# Altium footprint library DIOT-mini-backplane.PcbLib: 21 footprints (part 1 of 2)
Each footprint in its own frame and in the unit in brackets; x right, y up, seen from the top. Pads: shape width x height; smd on the part's side, far side on the other; paste and mask are expansions set on the pad; w line width, h text height; cw(c..) or ccw(c..) is an arc to the next point about the centre after c.
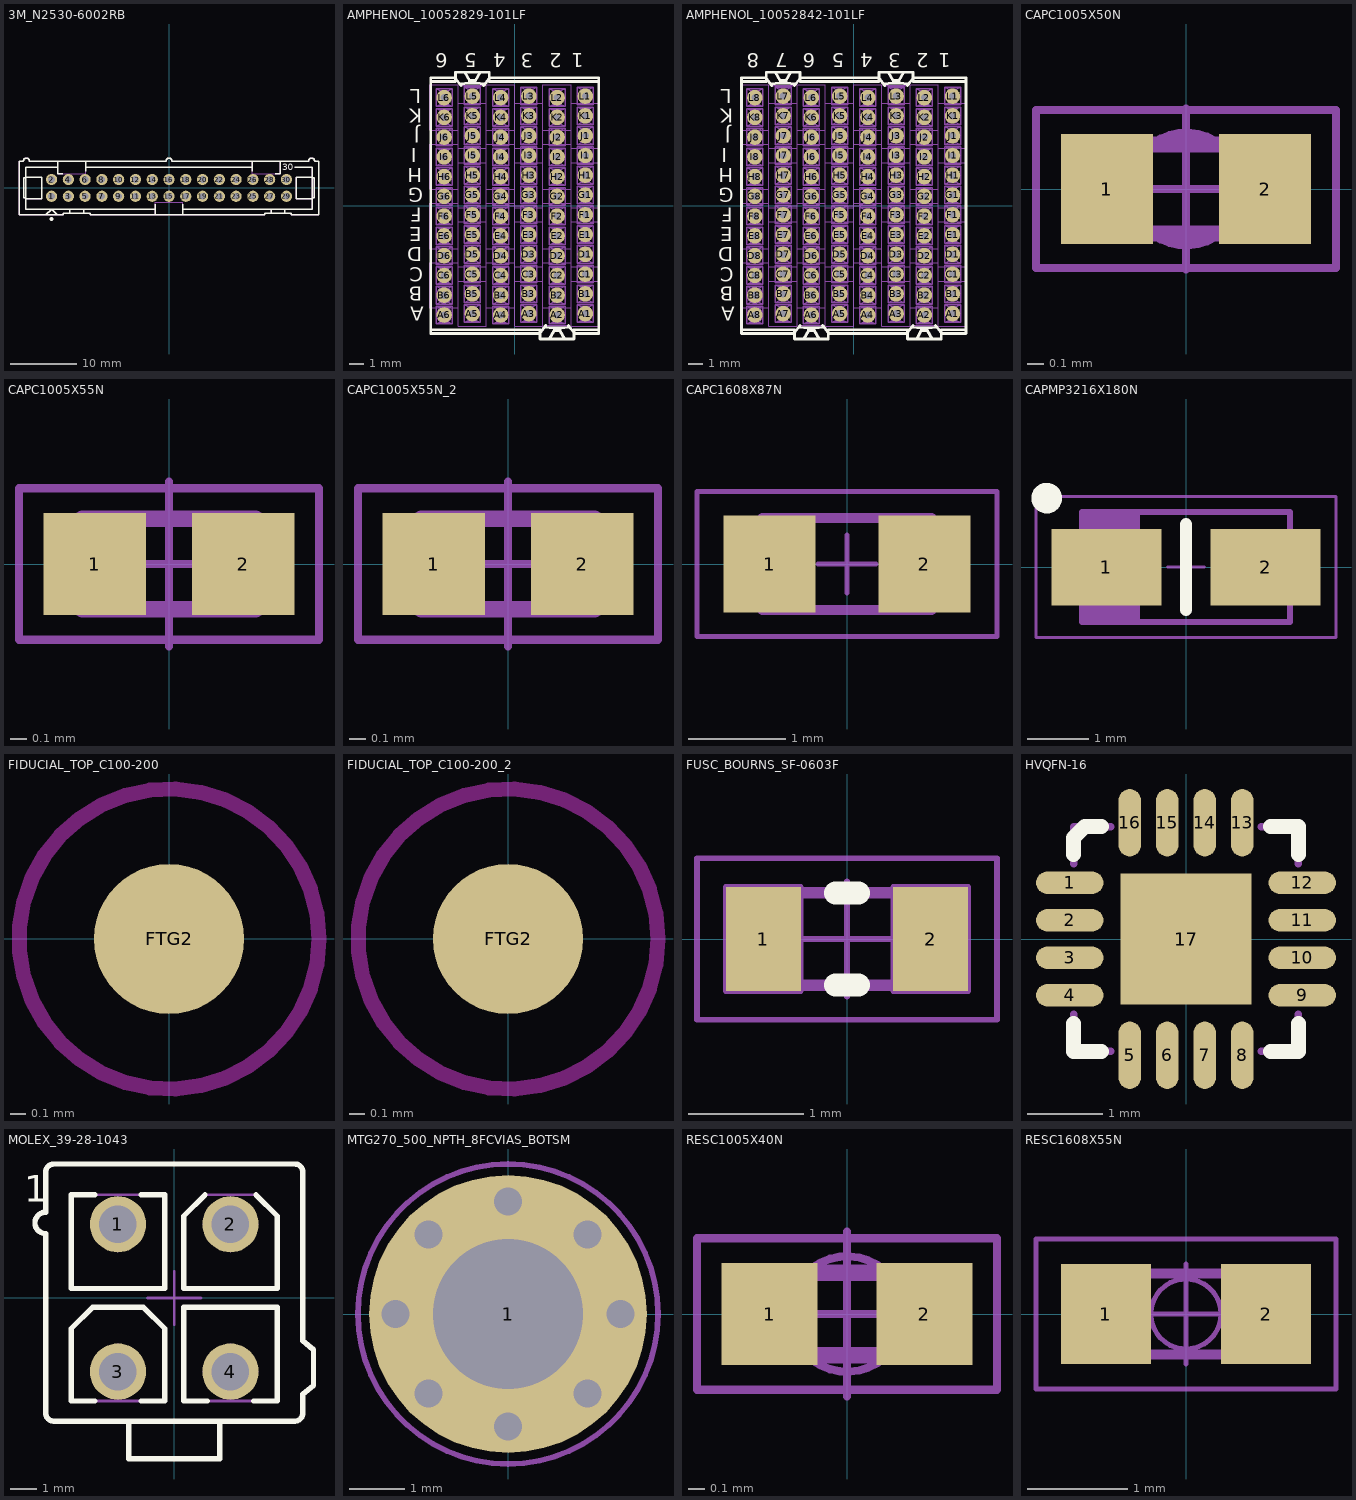
[diagram p0: the footprints below, top view; thin cyan lines are the x and y axes]

## 3M_N2530-6002RB [mm]
pads (30):
  round 1.7 hole 1: 1(-17.78,-1.27) 2(-17.78,1.27) 3(-15.24,-1.27) 4(-15.24,1.27) 5(-12.7,-1.27) 6(-12.7,1.27) 7(-10.16,-1.27) 8(-10.16,1.27) 9(-7.62,-1.27) 10(-7.62,1.27) 11(-5.08,-1.27) 12(-5.08,1.27) 13(-2.54,-1.27) 14(-2.54,1.27) 15(0,-1.27) 16(0,1.27) 17(2.54,-1.27) 18(2.54,1.27) 19(5.08,-1.27) 20(5.08,1.27) 21(7.62,-1.27) 22(7.62,1.27) 23(10.16,-1.27) 24(10.16,1.27) 25(12.7,-1.27) 26(12.7,1.27) 27(15.24,-1.27) 28(15.24,1.27) 29(17.78,-1.27) 30(17.78,1.27)
Top Overlay:
  circle w0.3: c-17.78,-4.699 r0.15
  lines w0.2: -21.692,-1.603 -19.279,-1.603 -19.279,1.603 -21.692,1.603 ; -21.692,-1.524 -21.996,-1.524 -21.996,1.524 -21.692,1.524 ; -18.644,-4.064 -17.78,-3.2 -16.916,-4.064 ; -16.828,3.15 -21.692,3.15 -21.692,-3.2 -2.096,-3.2 ; -16.828,4.064 -16.828,2.159 -16.119,2.159 ; -15.011,-3.835 -15.011,-3.2 ; -12.929,-3.835 -12.929,-3.2 ; -12.637,2.518 -12.637,4.064 ; -12.637,3.15 12.637,3.15 ; -2.096,-4.064 -2.096,-2.438 ; 2.095,-4.064 2.095,-2.438 ; 2.095,-3.2 21.692,-3.2 21.692,3.15 19.05,3.15 ; 12.637,2.518 12.637,4.064 ; 15.469,-3.835 15.469,-3.2 ; 16.119,2.159 16.828,2.159 16.828,4.064 ; 17.551,-3.835 17.551,-3.2 ; 21.692,-1.603 19.279,-1.603 19.279,1.603 21.692,1.603 ; 21.692,-1.524 21.996,-1.524 21.996,1.524 21.692,1.524 ; -22.708,-4.064 -22.708,4.064 -22.047,4.064 cw(c-21.59,4.064) -21.133,4.064 -0.457,4.064 cw(c0,4.064) 0.457,4.064 21.133,4.064 cw(c21.59,4.064) 22.047,4.064 22.708,4.064 22.708,-4.064 18.542,-4.064 18.542,-3.835 14.478,-3.835 14.478,-4.064 -11.938,-4.064 -11.938,-3.835 -16.002,-3.835 -16.002,-4.064 -22.708,-4.064
  text "30" at 17.145,2.667 h1.02
Mechanical 14:
  lines w0.1: -21.692,-1.603 -19.279,-1.603 -19.279,1.603 -21.692,1.603 ; -21.692,-1.524 -21.996,-1.524 -21.996,1.524 -21.692,1.524 ; -18.644,-4.064 -17.78,-3.2 -16.916,-4.064 ; -16.828,3.15 -21.692,3.15 -21.692,-3.2 -2.096,-3.2 ; -16.828,4.064 -16.828,2.159 -12.637,2.159 -12.637,4.064 ; -15.011,-3.835 -15.011,-3.2 ; -12.929,-3.835 -12.929,-3.2 ; -12.637,3.15 12.637,3.15 ; -2.096,-4.064 -2.096,-2.159 2.095,-2.159 2.095,-4.064 ; 2.095,-3.2 21.692,-3.2 21.692,3.15 19.05,3.15 ; 12.637,4.064 12.637,2.159 16.828,2.159 16.828,4.064 ; 15.469,-3.835 15.469,-3.2 ; 17.551,-3.835 17.551,-3.2 ; 21.692,-1.603 19.279,-1.603 19.279,1.603 21.692,1.603 ; 21.692,-1.524 21.996,-1.524 21.996,1.524 21.692,1.524 ; -22.708,-4.064 -22.708,4.064 -22.047,4.064 cw(c-21.59,4.064) -21.133,4.064 -0.457,4.064 cw(c0,4.064) 0.457,4.064 21.133,4.064 cw(c21.59,4.064) 22.047,4.064 22.708,4.064 22.708,-4.064 18.542,-4.064 18.542,-3.835 14.478,-3.835 14.478,-4.064 -11.938,-4.064 -11.938,-3.835 -16.002,-3.835 -16.002,-4.064 -22.708,-4.064
  text "30" at 17.145,2.667 h1.02
3D body "3M_N2530-6002RB.stp": height 9.91, standoff -2.84, extent -22.707,-4.115 22.708,4.518

## AMPHENOL_10052829-101LF [mm]
pads (72):
  round 1.1 hole 0.5: A1(5,-7.65) A2(3,-7.75) A3(1,-7.65) A4(-1,-7.75) A5(-3,-7.65) A6(-5,-7.75) B1(5,-6.25) B2(3,-6.35) B3(1,-6.25) B4(-1,-6.35) B5(-3,-6.25) B6(-5,-6.35) C1(5,-4.85) C2(3,-4.95) C3(1,-4.85) C4(-1,-4.95) C5(-3,-4.85) C6(-5,-4.95) D1(5,-3.45) D2(3,-3.55) D3(1,-3.45) D4(-1,-3.55) D5(-3,-3.45) D6(-5,-3.55) E1(5,-2.05) E2(3,-2.15) E3(1,-2.05) E4(-1,-2.15) E5(-3,-2.05) E6(-5,-2.15) F1(5,-0.65) F2(3,-0.75) F3(1,-0.65) F4(-1,-0.75) F5(-3,-0.65) F6(-5,-0.75) G1(5,0.75) G2(3,0.65) G3(1,0.75) G4(-1,0.65) G5(-3,0.75) G6(-5,0.65) H1(5,2.15) H2(3,2.05) H3(1,2.15) H4(-1,2.05) H5(-3,2.15) H6(-5,2.05) I1(5,3.55) I2(3,3.45) I3(1,3.55) I4(-1,3.45) I5(-3,3.55) I6(-5,3.45) J1(5,4.95) J2(3,4.85) J3(1,4.95) J4(-1,4.85) J5(-3,4.95) J6(-5,4.85) K1(5,6.35) K2(3,6.25) K3(1,6.35) K4(-1,6.25) K5(-3,6.35) K6(-5,6.25) L1(5,7.75) L2(3,7.65) L3(1,7.75) L4(-1,7.65) L5(-3,7.75) L6(-5,7.65)
Top Overlay:
  lines w0.2: -5.95,-8.8 1.8,-8.8 1.8,-9.45 4.2,-9.45 4.2,-8.8 5.95,-8.8 ; -5.95,8.8 -4.2,8.8 -4.2,9.45 -1.8,9.45 -1.8,8.8 5.95,8.8 ; -4.2,9 -3.8,8.5 ; -4.2,9.05 -5.95,9.05 -5.95,-9.05 1.8,-9.05 ; -3.896,8.619 -3.2,8.68 ; -3.546,9.45 -3.2,8.85 ; -2.454,9.45 -2.8,8.85 ; -2.2,8.5 -1.8,9 ; -2.104,8.619 -2.8,8.68 ; -1.8,9.05 5.95,9.05 5.95,-9.05 4.2,-9.05 ; 1.8,-9 2.2,-8.5 ; 2.105,-8.619 2.8,-8.68 ; 2.454,-9.45 2.8,-8.85 ; 3.546,-9.45 3.2,-8.85 ; 3.8,-8.5 4.2,-9 ; 3.895,-8.619 3.2,-8.68 ; -3.2,8.68 -3.2,8.85 ; -3.2,8.68 -2.8,8.68 ; -3.2,8.85 -2.8,8.85 ; -2.8,8.68 -2.8,8.85 ; 2.8,-8.85 2.8,-8.68 ; 2.8,-8.85 3.2,-8.85 ; 2.8,-8.68 3.2,-8.68 ; 3.2,-8.85 3.2,-8.68
  text "L" at -6.629,8.25 h1
  text "6" at -4.731,10.8 h1
  text "K" at -6.533,6.85 h1
  text "J" at -6.724,5.45 h1
  text "5" at -2.683,10.8 h1
  text "4" at -0.636,10.8 h1
  text "I" at -6.95,4.05 h1
  text "H" at -6.533,2.65 h1
  text "G" at -6.486,1.25 h1
  text "3" at 1.317,10.8 h1
  text "2" at 3.317,10.8 h1
  text "1" at 4.888,10.8 h1
  text "F" at -6.581,-0.15 h1
  text "E" at -6.581,-1.55 h1
  text "D" at -6.533,-2.95 h1
  text "C" at -6.486,-4.35 h1
  text "B" at -6.533,-5.75 h1
  text "A" at -6.438,-7.15 h1
Mechanical 8:
  drawing of 247 lines, arcs and shapes, not listed
Mechanical 14:
  drawing of 902 lines, arcs and shapes, not listed
  text "L" at -7.2,7.25 h1
  text "6" at -5.35,9.8 h1
  text "K" at -7.2,5.85 h1
  text "J" at -7.2,4.45 h1
  text "5" at -3.35,9.8 h1
  text "4" at -1.35,9.8 h1
  text "I" at -6.95,3.05 h1
  text "H" at -7.2,1.65 h1
  text "G" at -7.2,0.25 h1
  text "3" at 0.65,9.8 h1
  text "2" at 2.65,9.8 h1
  text "1" at 4.65,9.8 h1
  text "F" at -7.2,-1.15 h1
  text "E" at -7.2,-2.55 h1
  text "D" at -7.2,-3.95 h1
  text "C" at -7.2,-5.35 h1
  text "B" at -7.2,-6.75 h1
  text "A" at -7.2,-8.15 h1
Drill Drawing:
  lines w0.1: -6,-8.75 -6,8.75 6,8.75 6,-8.75 -6,-8.75
  text "PRESS-FIT TECHNOLOGY" at 7.5,-8.4 h1
  text "Diam. 0.5mm +/-0.05" at 9,-8.4 h1
3D body "AMPHENOL_10052829-101LF.stp": height 10.7, standoff -1.6, extent -5.95,-9.45 5.95,9.45

## AMPHENOL_10052842-101LF [mm]
pads (96):
  round 1.1 hole 0.5: A1(7,-7.65) A2(5,-7.75) A3(3,-7.65) A4(1,-7.75) A5(-1,-7.65) A6(-3,-7.75) A7(-5,-7.65) A8(-7,-7.75) B1(7,-6.25) B2(5,-6.35) B3(3,-6.25) B4(1,-6.35) B5(-1,-6.25) B6(-3,-6.35) B7(-5,-6.25) B8(-7,-6.35) C1(7,-4.85) C2(5,-4.95) C3(3,-4.85) C4(1,-4.95) C5(-1,-4.85) C6(-3,-4.95) C7(-5,-4.85) C8(-7,-4.95) D1(7,-3.45) D2(5,-3.55) D3(3,-3.45) D4(1,-3.55) D5(-1,-3.45) D6(-3,-3.55) D7(-5,-3.45) D8(-7,-3.55) E1(7,-2.05) E2(5,-2.15) E3(3,-2.05) E4(1,-2.15) E5(-1,-2.05) E6(-3,-2.15) E7(-5,-2.05) E8(-7,-2.15) F1(7,-0.65) F2(5,-0.75) F3(3,-0.65) F4(1,-0.75) F5(-1,-0.65) F6(-3,-0.75) F7(-5,-0.65) F8(-7,-0.75) G1(7,0.75) G2(5,0.65) G3(3,0.75) G4(1,0.65) G5(-1,0.75) G6(-3,0.65) G7(-5,0.75) G8(-7,0.65) H1(7,2.15) H2(5,2.05) H3(3,2.15) H4(1,2.05) H5(-1,2.15) H6(-3,2.05) H7(-5,2.15) H8(-7,2.05) I1(7,3.55) I2(5,3.45) I3(3,3.55) I4(1,3.45) I5(-1,3.55) I6(-3,3.45) I7(-5,3.55) I8(-7,3.45) J1(7,4.95) J2(5,4.85) J3(3,4.95) J4(1,4.85) J5(-1,4.95) J6(-3,4.85) J7(-5,4.95) J8(-7,4.85) K1(7,6.35) K2(5,6.25) K3(3,6.35) K4(1,6.25) K5(-1,6.35) K6(-3,6.25) K7(-5,6.35) K8(-7,6.25) L1(7,7.75) L2(5,7.65) L3(3,7.75) L4(1,7.65) L5(-1,7.75) L6(-3,7.65) L7(-5,7.75) L8(-7,7.65)
Top Overlay:
  lines w0.2: -7.95,-8.8 -4.2,-8.8 -4.2,-9.45 -1.8,-9.45 -1.8,-8.8 3.8,-8.8 3.8,-9.45 6.2,-9.45 6.2,-8.8 7.95,-8.8 ; -7.95,8.8 -6.2,8.8 -6.2,9.45 -3.8,9.45 -3.8,8.8 1.8,8.8 1.8,9.45 4.2,9.45 4.2,8.8 7.95,8.8 ; -6.2,9 -5.8,8.5 ; -6.2,9.05 -7.95,9.05 -7.95,-9.05 -4.2,-9.05 ; -5.895,8.619 -5.2,8.68 ; -5.546,9.45 -5.2,8.85 ; -4.454,9.45 -4.8,8.85 ; -4.2,-9 -3.8,-8.5 ; -4.2,8.5 -3.8,9 ; -4.105,8.619 -4.8,8.68 ; -3.895,-8.619 -3.2,-8.68 ; -3.8,9.05 1.8,9.05 ; -3.546,-9.45 -3.2,-8.85 ; -2.454,-9.45 -2.8,-8.85 ; -2.2,-8.5 -1.8,-9 ; -2.105,-8.619 -2.8,-8.68 ; -1.8,-9.05 3.8,-9.05 ; 1.8,9 2.2,8.5 ; 2.105,8.619 2.8,8.68 ; 2.454,9.45 2.8,8.85 ; 3.546,9.45 3.2,8.85 ; 3.8,-9 4.2,-8.5 ; 3.8,8.5 4.2,9 ; 3.895,8.619 3.2,8.68 ; 4.104,-8.619 4.8,-8.68 ; 4.2,9.05 7.95,9.05 7.95,-9.05 6.2,-9.05 ; 4.454,-9.45 4.8,-8.85 ; 5.546,-9.45 5.2,-8.85 ; 5.8,-8.5 6.2,-9 ; 5.896,-8.619 5.2,-8.68 ; -5.2,8.68 -4.8,8.68 ; -5.2,8.68 -5.2,8.85 ; -5.2,8.85 -4.8,8.85 ; -4.8,8.68 -4.8,8.85 ; -3.2,-8.85 -2.8,-8.85 ; -3.2,-8.85 -3.2,-8.68 ; -3.2,-8.68 -2.8,-8.68 ; -2.8,-8.85 -2.8,-8.68 ; 2.8,8.68 3.2,8.68 ; 2.8,8.68 2.8,8.85 ; 2.8,8.85 3.2,8.85 ; 3.2,8.68 3.2,8.85 ; 4.8,-8.85 5.2,-8.85 ; 4.8,-8.85 4.8,-8.68 ; 4.8,-8.68 5.2,-8.68 ; 5.2,-8.85 5.2,-8.68
  text "A" at -8.438,-7.15 h1
  text "B" at -8.533,-5.75 h1
  text "C" at -8.486,-4.35 h1
  text "D" at -8.533,-2.95 h1
  text "E" at -8.581,-1.55 h1
  text "F" at -8.581,-0.15 h1
  text "1" at 6.888,10.8 h1
  text "2" at 5.317,10.8 h1
  text "3" at 3.317,10.8 h1
  text "4" at 1.364,10.8 h1
  text "G" at -8.486,1.25 h1
  text "H" at -8.533,2.65 h1
  text "I" at -8.95,4.05 h1
  text "5" at -0.683,10.8 h1
  text "6" at -2.731,10.8 h1
  text "J" at -8.724,5.45 h1
  text "K" at -8.533,6.85 h1
  text "7" at -4.683,10.8 h1
  text "8" at -6.683,10.8 h1
  text "L" at -8.629,8.25 h1
Mechanical 8:
  drawing of 330 lines, arcs and shapes, not listed
Mechanical 14:
  drawing of 1222 lines, arcs and shapes, not listed
  text "A" at -9.2,-8.15 h1
  text "B" at -9.2,-6.75 h1
  text "C" at -9.2,-5.35 h1
  text "D" at -9.2,-3.95 h1
  text "E" at -9.2,-2.55 h1
  text "F" at -9.2,-1.15 h1
  text "1" at 6.65,9.8 h1
  text "2" at 4.65,9.8 h1
  text "3" at 2.65,9.8 h1
  text "4" at 0.65,9.8 h1
  text "G" at -9.2,0.25 h1
  text "H" at -9.2,1.65 h1
  text "I" at -8.95,3.05 h1
  text "5" at -1.35,9.8 h1
  text "6" at -3.35,9.8 h1
  text "J" at -9.2,4.45 h1
  text "K" at -9.2,5.85 h1
  text "7" at -5.35,9.8 h1
  text "8" at -7.35,9.8 h1
  text "L" at -9.2,7.25 h1
Drill Drawing:
  lines w0.1: -8,-8.85 8,-8.85 8,8.65 -8,8.65 -8,-8.85
  text "Diam. 0.5mm +/-0.05" at 11,-8.5 h1
  text "PRESS-FIT TECHNOLOGY" at 9.5,-8.5 h1
3D body "AMPHENOL_10052842-101LF.stp": height 10.7, standoff -1.6, extent -7.95,-9.45 7.95,9.45

## CAPC1005X50N [mm]
pads (2):
  rect 0.57x0.68 smd: 1(-0.49,0) 2(0.49,0)
Mechanical 14:
  lines w0.1: -0.5,-0.275 -0.5,0.275 0.5,0.275 0.5,-0.275 -0.5,-0.275
Top Courtyard:
  circle w0.05: c0,0 r0.35
  lines w0.05: -0.5,0 0.5,0 ; 0,-0.5 0,0.5 ; -0.93,-0.49 0.93,-0.49 0.93,0.49 -0.93,0.49 -0.93,-0.49
3D body "CAPC1005X50N.stp": height 0.5, standoff 0, extent -0.5,-0.275 0.5,0.275

## CAPC1005X55N [mm]
pads (2):
  rect 0.62x0.62 smd: 1(-0.45,0) 2(0.45,0)
Mechanical 14:
  lines w0.1: -0.525,-0.275 0.525,-0.275 0.525,0.275 -0.525,0.275 -0.525,-0.275
Top Courtyard:
  lines w0.05: -0.5,0 0.5,0 ; 0,-0.5 0,0.5 ; -0.91,-0.46 0.91,-0.46 0.91,0.46 -0.91,0.46 -0.91,-0.46
3D body "CAPC1005X55N.stp": height 0.55, standoff 0, extent -0.525,-0.275 0.525,0.275

## CAPC1005X55N_2 [mm]
pads (2):
  rect 0.62x0.62 smd: 1(-0.45,0) 2(0.45,0)
Mechanical 14:
  lines w0.1: -0.525,-0.275 0.525,-0.275 0.525,0.275 -0.525,0.275 -0.525,-0.275
Top Courtyard:
  lines w0.05: -0.5,0 0.5,0 ; 0,-0.5 0,0.5 ; -0.91,-0.46 0.91,-0.46 0.91,0.46 -0.91,0.46 -0.91,-0.46
3D body "CAPC1005X55N.stp": height 0.55, standoff 0, extent -0.525,-0.275 0.525,0.275

## CAPC1608X87N [mm]
pads (2):
  rect 0.95x1 smd: 1(-0.8,0) 2(0.8,0)
Mechanical 14:
  lines w0.1: -0.875,-0.475 -0.875,0.475 0.875,0.475 0.875,-0.475 -0.875,-0.475
Top Courtyard:
  lines w0.05: -0.3,0 0.3,0 ; 0,-0.3 0,0.3 ; -1.55,-0.75 1.55,-0.75 1.55,0.75 -1.55,0.75 -1.55,-0.75
3D body "CAPC1608X87N.stp": height 0.87, standoff 0, extent -0.875,-0.475 0.875,0.475

## CAPMP3216X180N [mm]
pads (2):
  rect 1.8x1.25 smd: 1(-1.3,0) 2(1.3,0)
Top Overlay:
  circle w0.25: c-2.275,1.125 r0.125
  lines w0.2: 0,-0.7 0,0.7
Mechanical 14:
  lines w0.1: -1.625,-0.9 -1.625,0.9 ; -1.55,-0.9 -1.55,0.9 ; -1.475,-0.9 -1.475,0.9 ; -1.4,-0.9 -1.4,0.9 ; -1.325,-0.9 -1.325,0.9 ; -1.25,-0.9 -1.25,0.9 ; -1.175,-0.9 -1.175,0.9 ; -1.1,-0.9 -1.1,0.9 ; -1.025,-0.9 -1.025,0.9 ; -0.95,-0.9 -0.95,0.9 ; -0.875,-0.9 -0.875,0.9 ; -0.8,-0.9 -0.8,0.9 ; -1.7,-0.9 -1.7,0.9 1.7,0.9 1.7,-0.9 -1.7,-0.9
Top Courtyard:
  lines w0.05: -0.3,0 0.3,0 ; 0,-0.3 0,0.3 ; -2.45,-1.15 2.45,-1.15 2.45,1.15 -2.45,1.15 -2.45,-1.15
3D body "CAPMP3216X180N.stp": height 1.6, standoff 0, extent -1.7,-0.9 1.7,0.9

## FIDUCIAL_TOP_C100-200 [mm]
pads (1):
  round 1 smd paste-0.51 mask+0.5: FTG2(0,0)
Top Layer keep-out:
  circle w0.1: c0,0 r1

## FIDUCIAL_TOP_C100-200_2 [mm]
pads (1):
  round 1 smd paste-0.51 mask+0.5: FTG2(0,0)
Top Layer keep-out:
  circle w0.1: c0,0 r1

## FUSC_BOURNS_SF-0603F [mm]
pads (2):
  rect 0.65x0.9 smd: 1(-0.725,0) 2(0.725,0)
Top Overlay:
  lines w0.2: -0.1,-0.4 0.1,-0.4 ; -0.1,0.4 0.1,0.4
Mechanical 8:
  lines w0.05: -0.5,0 0,0 ; 0,-0.5 0,0 ; 0,0.5 0,0 ; 0.5,0 0,0 ; -1.05,-0.45 -0.725,0 -1.05,0.45 ; -1.05,-0.45 -0.4,-0.45 -0.4,0.45 -1.05,0.45 ; -1.05,-0.45 -1.05,0.45 ; 1.05,-0.45 0.725,0 1.05,0.45 ; 1.05,-0.45 0.4,-0.45 0.4,0.45 1.05,0.45 ; 1.05,-0.45 1.05,0.45
Mechanical 14:
  lines w0.1: -0.5,-0.4 -0.5,0.4 ; -0.5,-0.4 0.5,-0.4 ; -0.5,-0.4 -0.5,0.4 ; -0.5,0.4 0.5,0.4 ; 0.5,-0.4 0.5,0.4 ; 0.5,-0.4 0.5,0.4 ; -0.8,-0.4 -0.8,0.4 0.8,0.4 0.8,-0.4 -0.8,-0.4
Top Courtyard:
  lines w0.05: -1.3,-0.7 -1.3,0.7 1.3,0.7 1.3,-0.7 -1.3,-0.7
3D body "FUSC_BOURNS_SF-0603F.stp": height 0.55, standoff 0, extent -0.8,-0.4 0.8,0.4

## HVQFN-16 [mm]
height 1
pads (17):
  oval 0.9x0.3 smd paste-0.025: 1(-1.55,0.75) 2(-1.55,0.25) 4(-1.55,-0.75) 9(1.55,-0.75) 10(1.55,-0.25) 11(1.55,0.25) 12(1.55,0.75)
  oval 0.9x0.3 smd paste-0.025 mask+0.102: 3(-1.55,-0.25)
  oval 0.3x0.9 smd paste-0.025: 5(-0.75,-1.55) 6(-0.25,-1.55) 7(0.25,-1.55) 8(0.75,-1.55) 13(0.75,1.55) 14(0.25,1.55) 15(-0.25,1.55) 16(-0.75,1.55)
  rect 1.75x1.75 smd paste-1: 17(0,0)
Top Overlay:
  lines w0.2: -1.5,-1.125 -1.5,-1.5 -1.125,-1.5 ; -1.5,1.125 -1.5,1.35 -1.35,1.5 -1.125,1.5 ; 1.125,-1.5 1.5,-1.5 1.5,-1.125 ; 1.125,1.5 1.5,1.5 1.5,1.125
Top Paste:
  rectangle: 0.15,0.15 0.45,0.45
  region: -0.15,0.15 -0.15,0.45 -0.45,0.45 -0.45,0.15
  region: -0.15,-0.15 -0.45,-0.15 -0.45,-0.45 -0.15,-0.45
  region: 0.15,-0.15 0.15,-0.45 0.45,-0.45 0.45,-0.15
Mechanical 5:
  lines w0.1: -1.5,-1 -1.5,-1.5 -1,-1.5 ; -1.5,1 -1.5,1.5 -1,1.5 ; 1,-1.5 1.5,-1.5 1.5,-1 ; 1,1.5 1.5,1.5 1.5,1
  text "'.Designator' / '.ComponentSymbol'" at -1.3,-0.375 h0.3
3D body "SOT758-1_NXP.step": height 0.99, standoff 0, extent -1.549,-1.549 1.549,1.549

## MOLEX_39-28-1043 [mm]
pads (4):
  round 2.1 hole 1.4: 1(-2.1,2.75) 2(2.1,2.75) 3(-2.1,-2.75) 4(2.1,-2.75)
Top Overlay:
  lines w0.2: -2.966,-3.85 -3.85,-3.85 -3.85,-1.15 -3.05,-0.35 -1.15,-0.35 -0.35,-1.15 -0.35,-3.85 -1.234,-3.85 ; -2.966,3.85 -3.85,3.85 -3.85,0.35 -0.35,0.35 -0.35,3.85 -1.234,3.85 ; -1.7,-4.6 -1.7,-6 1.7,-6 1.7,-4.6 ; 1.15,3.85 0.35,3.05 0.35,0.35 3.85,0.35 3.85,3.05 3.05,3.85 ; 1.234,-3.85 0.35,-3.85 0.35,-0.35 3.85,-0.35 3.85,-3.85 2.966,-3.85 ; -4.8,-4.3 ccw(c-4.5,-4.3) -4.5,-4.6 4.5,-4.6 ccw(c4.5,-4.3) 4.8,-4.3 4.8,-3.6 5.2,-3.264 5.2,-1.936 4.8,-1.6 4.8,4.7 ccw(c4.5,4.7) 4.5,5 -4.5,5 ccw(c-4.5,4.7) -4.8,4.7 -4.8,3.2 ccw(c-4.8,2.8) -4.8,2.4 -4.8,-4.3
  text "1" at -5.592,3.582 h1
Mechanical 8:
  lines w0.1: -3.1,-2.75 -2.1,-2.75 ; -3.1,2.75 -2.1,2.75 ; -2.1,-3.75 -2.1,-2.75 ; -2.1,-1.75 -2.1,-2.75 ; -2.1,1.75 -2.1,2.75 ; -2.1,3.75 -2.1,2.75 ; -1.1,-2.75 -2.1,-2.75 ; -1.1,2.75 -2.1,2.75 ; -1,0 0,0 ; 0,-1 0,0 ; 0,1 0,0 ; 1,0 0,0 ; 1.1,-2.75 2.1,-2.75 ; 1.1,2.75 2.1,2.75 ; 2.1,-3.75 2.1,-2.75 ; 2.1,-1.75 2.1,-2.75 ; 2.1,1.75 2.1,2.75 ; 2.1,3.75 2.1,2.75 ; 3.1,-2.75 2.1,-2.75 ; 3.1,2.75 2.1,2.75
Mechanical 14:
  lines w0.1: -1.7,-4.6 -1.7,-6 1.7,-6 1.7,-4.6 ; -4.8,-4.3 ccw(c-4.5,-4.3) -4.5,-4.6 4.5,-4.6 ccw(c4.5,-4.3) 4.8,-4.3 4.8,-3.6 5.2,-3.264 5.2,-1.936 4.8,-1.6 4.8,4.7 ccw(c4.5,4.7) 4.5,5 -4.5,5 ccw(c-4.5,4.7) -4.8,4.7 -4.8,3.2 ccw(c-4.8,2.8) -4.8,2.4 -4.8,-4.3 ; -3.85,-3.85 -3.85,-1.15 -3.05,-0.35 -1.15,-0.35 -0.35,-1.15 -0.35,-3.85 -3.85,-3.85 ; -3.85,0.35 -3.85,3.85 -0.35,3.85 -0.35,0.35 -3.85,0.35 ; 0.35,-3.85 0.35,-0.35 3.85,-0.35 3.85,-3.85 0.35,-3.85 ; 0.35,0.35 0.35,3.05 1.15,3.85 3.05,3.85 3.85,3.05 3.85,0.35 0.35,0.35
  text "1" at -5.592,3.582 h1
  text "4" at 2.867,-6.2 h1
3D body "MOLEX_39-28-1043.stp": height 12.8, standoff -3.5, extent -5.2,-6 5.2,5

## MTG270_500_NPTH_8FCVIAS_BOTSM [mm]
pads (1):
  round 5 hole 2.7 mask-2539.97: 1(0,0)
via 0,2.025 diameter 0.85 hole 0.5
via -1.432,1.432 diameter 0.85 hole 0.5
via -2.025,0 diameter 0.85 hole 0.5
via -1.432,-1.432 diameter 0.85 hole 0.5
via 0,-2.025 diameter 0.85 hole 0.5
via 1.432,-1.432 diameter 0.85 hole 0.5
via 2.025,0 diameter 0.85 hole 0.5
via 1.432,1.432 diameter 0.85 hole 0.5
Top Solder:
  circle w2.5: c0,0 r1.25
Bottom Solder:
  circle w0.254: c0,0 r1.435
Mechanical 14:
  circle w0.1: c0,0 r2.7
Top Courtyard:
  circle w0.1: c0,0 r2.7

## RESC1005X40N [mm]
pads (2):
  rect 0.58x0.62 smd: 1(-0.47,0) 2(0.47,0)
Mechanical 14:
  lines w0.1: -0.5,-0.25 0.5,-0.25 0.5,0.25 -0.5,0.25 -0.5,-0.25
Top Courtyard:
  circle w0.05: c0,0 r0.35
  lines w0.05: -0.5,0 0.5,0 ; 0,-0.5 0,0.5 ; -0.91,-0.46 0.91,-0.46 0.91,0.46 -0.91,0.46 -0.91,-0.46
3D body "RESC1005X40N.stp": height 0.4, standoff 0, extent -0.525,-0.275 0.525,0.275

## RESC1608X55N [mm]
pads (2):
  rect 0.9x1 smd: 1(-0.8,0) 2(0.8,0)
Mechanical 14:
  lines w0.1: -0.8,-0.405 0.8,-0.405 0.8,0.405 -0.8,0.405 -0.8,-0.405
Top Courtyard:
  circle w0.05: c0,0 r0.35
  lines w0.05: -0.5,0 0.5,0 ; 0,-0.5 0,0.5 ; -1.5,-0.75 -1.5,0.75 1.5,0.75 1.5,-0.75 -1.5,-0.75
3D body "RESC1608X55N.stp": height 0.55, standoff 0, extent -0.875,-0.475 0.875,0.475